# Altium schematic symbol library STM32F373VBT6.Schlib: 1 symbol
Pins are listed as number, name and electrical type; pins without a type are passive.

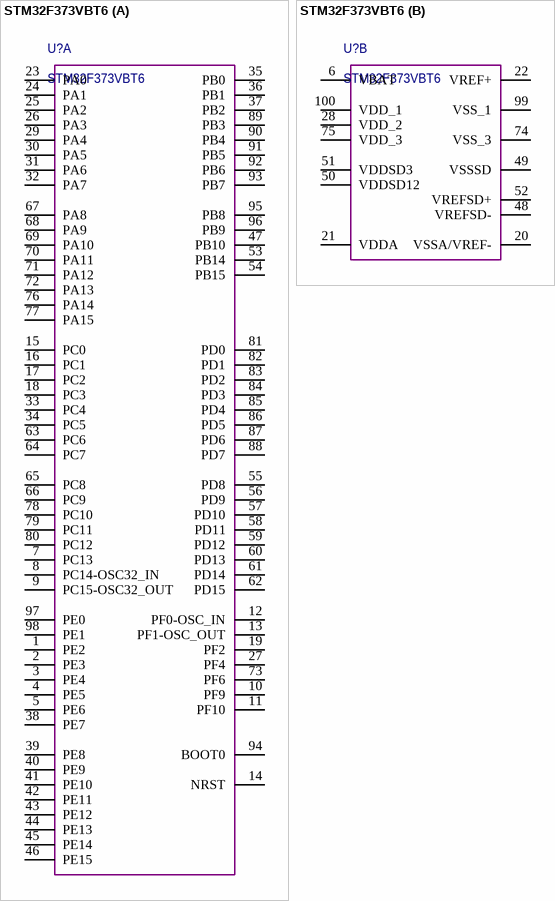
[diagram p0: symbol STM32F373VBT6]

## STM32F373VBT6
designator U?
part A pins: 1 PE2 "PE2/TSC_G7_IO1,TRACECLK", 2 PE3 "PE3/TSC_G7_IO2,TRACED0", 3 PE4 "PE4/TSC_G7_IO3,TRACED1", 4 PE5 "PE5/TSC_G7_IO4,TRACED2", 5 PE6 "PE6/TRACED3/WKUP3,RTC_TAMPER3", 7 PC13 "PC13/WKUP2_ALARM_OUT_CALIB_OUT_TIMESTAMP,RTC_TAMPER1", 8 PC14-OSC32_IN "PC14-OSC32_IN/OSC32_IN", 9 PC15-OSC32_OUT "PC15-OSC32_OUT/OSC32_OUT", 10 PF9 "PF9/TIM14_CH1", 11 PF10, 12 PF0-OSC_IN "PF0-OSC_IN/I2C2_SDA/OSC_IN", 13 PF1-OSC_OUT "PF1-OSC_OUT/I2C2_SCL/OSC_OUT", 14 NRST "Device reset input / internal reset output (active low)", 15 PC0 "PC0/TIM5_CH1_ETR/ADC_IN10", 16 PC1 "PC1/TIM5_CH2/ADCIN11", 17 PC2 "PC2/SPI2_MISO/I2S2_MCK,TIM5_CH3/ADC_IN12", 18 PC3 "PC3/SPI2_MOSI/I2S2_SD,TIM5_CH4/ADC_IN13", 19 PF2 "PF2/I2C2_SMBA", 23 PA0 "PA0/USART2_CTS,TIM2_CH1_ETR,TIM5_CH1_ETR,TIM19_CH1,TSC_G1_IO1,COMP1_OUT/RTC_TAMPER2,WKUP1,ADC_IN0,COMP1_INM", 24 PA1 "PA1/SPI3_SCK/I2S3_CK,USART2_RTS,TIM2_CH2,TIM15_CH1N,TIM5_CH2,TIM19_CH2,TSC_G1_IO2/ADC_IN1,COMP1_INP,RTC_REF_CLK_IN", 25 PA2 "PA2/COMP2_OUT,SPI3_MISO/I2S3_MCK,USART2_TX,TIM2_CH3,TIM15_CH1,TIM5_CH3,TIM19_CH3,TSC_G1_IO3/ADC_IN2,COMP2_INM", 26 PA3 "PA3/SPI3_MOSI,I2S3_SD,USART2_RX,TIM2_CH4,TIM15_CH2,TIM5_CH4,TIM19_CH4,TSC_G1_IO4/ADC_IN3,COMP2_INP", 27 PF4, 29 PA4 "PA4/SPI1_NSS/I2S1_WS,SPI3_NSS/I2S3_WS,USART2_CK,TIM3_CH2,TIM12_CH1,TSC_G2_IO1/ADC_IN4,DAC1_OUT1", 30 PA5 "PA5/SPI1_SCK/I2S1_CK,CEC,TIM2_CH1_ETR,TIM14_CH1,TIM12_CH2,TSC_G2_IO2/ADC_IN5,DAC1_OUT2", 31 PA6 "PA6/SPI1_MISO/I2S1_MCK,COMP1_OUT,TIM3_CH1,TIM13_CH1,TIM16_CH1,TSC_G2_IO3/ADC_IN6,DAC2_OUT1", 32 PA7 "PA7/TSC_G2_IO4,TIM14_CH1,SPI1_MOSI/I2S1_SD,TIM17_CH1,TIM3_CH2,COMP2_OUT/ADC_IN7", 33 PC4 "PC4/TIM13_CH1,TSC_G3_IO1,USART1_TX/ADC_IN14", 34 PC5 "PC5/TSC_G3_IO2,USART1_RX/ADC_IN15", 35 PB0 "PB0/SPI1_MOSI/I2S1_SD,TIM3_CH3,TSC_G3_IO3,TIM3_CH2/ADC_IN8,SDADC1_AIN6P", 36 PB1 "PB1/TIM3_CH4,TSC_G3_IO4/ADC_IN9,SDADC1_AIN5P,SDADC1_AIN6M", 37 PB2 "PB2/SDADC1_AIN4P,SDADC2_AIN6P", 38 PE7 "PE7/SDADC1_AIN3P,SDADC1_AIN4M,SDADC2_AIN5P,SDADC2_AIN6M", 39 PE8 "PE8/SDADC1_AIN8P,SDADC2_AIN8P", 40 PE9 "PE9/SDADC1_AIN7P,SDADC1_AIN8M,SDADC2_AIN7P,SDADC2_AIN8M", 41 PE10 "PE10/SDADC1_AIN2P", 42 PE11 "PE11/SDADC1_AIN1P,SDADC1_AIN2M,SDADC2_AIN4P", 43 PE12 "PE12/SDADC1_AIN0P,SDADC2_AIN3P,SDADC2_AIN4M", 44 PE13 "PE13/SDADC1_AIN0M,SDADC2_AIN2P", 45 PE14 "PE14/SDADC2_AIN1P,SDADC2_AIN2M", 46 PE15 "PE15/USART3_RX/SDADC2_AIN0P", 47 PB10 "PB10/SPI2_SCK/I2S2_CK,USART3_TX,CEC,TSC_SYNC,TIM2_CH3/SDADC2_AIN0M", 53 PB14 "PB14/SPI2_MISO/I2S2_MCK,USART3_RTS,TIM15_CH1,TIM12_CH1,TSC_G6_IO1/SDADC3_AIN8P", 54 PB15 "PB15/SPI2_MOSI/I2S2_SD,TIM15_CH1N,TIM15_CH2,TIM12_CH2,TSC_G6_IO2/SDADC3_AIN7P,SDADC3_AIN8M,RTC_REFCLKIN", 55 PD8 "PD8/SPI2_SCK/I2S2_CK,USART3_TX,TSC_G6_IO3/SDADC3_AIN6P", 56 PD9 "PD9/USART3_RX,TSC_G6_IO4/SDADC3_AIN5P,SDADC3_AIN6M", 57 PD10 "PD10/USART3_CK/SDADC3_AIN4P", 58 PD11 "PD11/USART3_CTS/SDADC3_AIN3P,SDADC3_AIN4M", 59 PD12 "PD12/USART3_RTS,TIM4_CH1,TSC_G8_IO1/SDADC3_AIN2P", 60 PD13 "PD13/TIM4_CH2,TSC_G8_IO2/SDADC3_AIN1P,SDADC3_AIN2M", 61 PD14 "PD14/TIM4_CH3,TSC_G8_IO3/SDADC3_AIN0P", 62 PD15 "PD15/TIM4_CH4,TSC_G8_IO4/SDADC3_AIN0M", 63 PC6 "PC6/TIM3_CH1,SPI1_NSS/I2S1_WS", 64 PC7 "PC7/TIM3_CH2,SPI1_SCK/I2S1_CK", 65 PC8 "PC8/SPI1_MISO/I2S1_MCK,TIM3_CH3", 66 PC9 "PC9/SPI1_MOSI/I2S1_SD,TIM3_CH4", 67 PA8 "PA8/SPI2_SCK/I2S2_CK,I2C2_SMBA,USART1_CK,TIM4_ETR,TIM5_CH1_ETR,MCO", 68 PA9 "PA9/SPI2_MISO/I2S2_MCK,I2C2_SCL,USART1_TX,TIM2_CH3,TIM15_BKIN,TIM13_CH1,TSC_G4_IO1", 69 PA10 "PA10/SPI2_MOSI/I2S2_SD,I2C2_SDA,USART1_RX,TIM2_CH4,TIM17_BKIN,TIM14_CH1,TSC_G4_IO2", 70 PA11 "PA11/SPI2_NSS/I2S2_WS,SPI1_NSS/I2S1_WS,USART1_CTS,CAN_RX,TIM4_CH1,USB_DM,TIM5_CH2,COMP1_OUT", 71 PA12 "PA12/SPI1_SCK/I2S1_CK,USART1_RTS,CAN_TX,USB_DP,TIM16_CH1,TIM4_CH2,TIM5_CH3,COMP2_OUT", 72 PA13 "PA13/SPI1_MISO/I2S1_MCK,USART3_CTS,IR_OUT,TIM16_CH1N,TIM4_CH3,TIM5_CH4,TSC_G4_IO3,SWDIO-JTMS", 73 PF6 "PF6/SPI1_MOSI,I2S1_SD,USART3_RTS,TIM4_CH4,I2C2_SCL", 76 PA14 "PA14/I2C1_SDA,TIM12_CH1,TSC_G4_IO4,SWCLK-JTCK", 77 PA15 "PA15/SPI1_NSS/I2S1_WS,SPI3_NSS/I2S3_WS,I2C1_SCL,TIM2_CH1_ETR,TIM12_CH2,TSC_SYNC,JTDI", 78 PC10 "PC10/SPI3_SCK/I2S3_CK,USART3_TX,TIM19_CH1", 79 PC11 "PC11/SPI3_MISO/I2S3_MCK,USART3_RX,TIM19_CH2", 80 PC12 "PC12/SPI3_MOSI/I2S3_SD,USART3_CK,TIM19_CH3", 81 PD0 "PD0/CAN_RX,TIM19_CH4", 82 PD1 "PD1/CAN_TX,TIM19_ETR", 83 PD2 "PD2/TIM3_ETR", 84 PD3 "PD3/SPI2_MISO/I2S2_MCK,USART2_CTS", 85 PD4 "PD4/SPI2_MOSI/I2S2_SD,USART2_RTS", 86 PD5 "PD5/USART2_TX", 87 PD6 "PD6/SPI2_NSS/I2S2_WS,USART2_RX", 88 PD7 "PD7/SPI2_SCK/I2S2_CK,USART2_CK", 89 PB3 "PB3/SPI1_SCK/I2S1_CK,SPI3_SCK/I2S3_CK,USART2_TX,TIM2_CH2,TIM3_ETR,TIM4_ETR,TIM13_CH1,TSC_G5_IO1,JTDO-TRACESWO", 90 PB4 "PB4/SPI1_MISO/I2S1_MCK,SPI3_MISO/I2S3_MCK,USART2_RX,TIM16_CH1,TIM3_CH1,TIM17_BKIN,TIM15_CH1N,TSC_G5_IO2,NJTRST", 91 PB5 "PB5/SPI1_MOSI/I2S1_SD,SPI3_MOSI/I2S3_SD,I2C1_SMBAI,USART2_CK,TIM16_BKIN,TIM3_CH2,TIM17_CH1,TIM19_ETR", 92 PB6 "PB6/I2C1_SCL,USART1_TX,TIM16_CH1N,TIM3_CH3,TIM4_CH1,TIM19_CH1,TIM15_CH1,TSC_G5_IO3", 93 PB7 "PB7/I2C1_SDA,USART1_RX,TIM17_CH1N,TIM3_CH4,TIM4_CH2,TIM19_CH2,TIM15_CH2,TSC_G5_IO4", 94 BOOT0 "Boot memory selection", 95 PB8 "PB8/SPI2_SCK/I2S2_CK,I2C1_SCL,USART3_TX,CAN_RX,CEC,TIM16_CH1,TIM4_CH3,TIM19_CH3,COMP1_OUT,TSC_SYNC", 96 PB9 "PB9/SPI2_NSS/I2S2_WS,I2C1_SDA,USART3_RX,CAN_TX,IR_OUT,TIM17_CH1,TIM4_CH4,TIM19_CH4,COMP2_OUT", 97 PE0 "PE0/USART1_TX,TIM4_ETR", 98 PE1 "PE1/USART1_RX"
part B pins: 6 VBAT (power) "Backup power supply", 20 VSSA/VREF- (power) "Analog ground", 21 VDDA (power) "Analog power supply", 22 VREF+ (power) "Reference voltage for ADC, COMP, DAC", 28 VDD_2 (power) "Digital power supply", 48 VREFSD- (power) "External reference voltage for SDADC1, SDADC2, SDADC3 (negative input)", 49 VSSSD (power) "SDADC1, SDADC2, SDADC3 ground", 50 VDDSD12 (power) "SDADC1 and SDADC2 power supply", 51 VDDSD3 (power) "SDADC3 power supply", 52 VREFSD+ (power) "External reference voltage for SDADC1, SDADC2, SDADC3 (positive input)", 74 VSS_3 (power) "Ground", 75 VDD_3 (power) "Digital power supply", 99 VSS_1 (power) "Ground", 100 VDD_1 (power) "Digital power supply"